# Altium footprint library MAPBGA.PcbLib: 1 footprints
Each footprint in its own frame and in the unit in brackets; x right, y up, seen from the top. Pads: shape width x height; smd on the part's side, far side on the other; paste and mask are expansions set on the pad; w line width, h text height; cw(c..) or ccw(c..) is an arc to the next point about the centre after c.
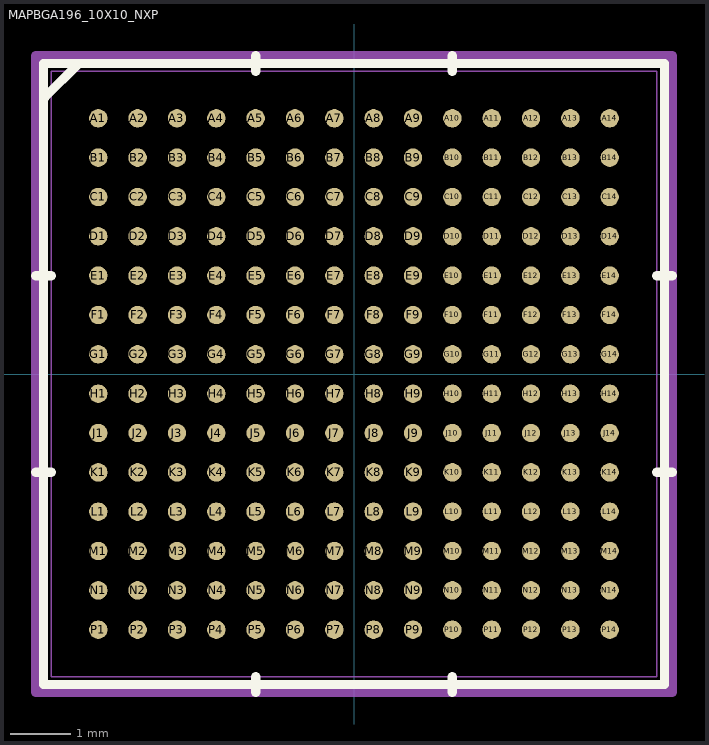
[diagram p0: the footprint, top view; thin cyan lines are the x and y axes]

## MAPBGA196_10X10_NXP [mm]
pads (196):
  round 0.305 smd: A1(-4.225,4.225) A2(-3.575,4.225) A3(-2.925,4.225) A4(-2.275,4.225) A5(-1.625,4.225) A6(-0.975,4.225) A7(-0.325,4.225) A8(0.325,4.225) A9(0.975,4.225) A10(1.625,4.225) A11(2.275,4.225) A12(2.925,4.225) A13(3.575,4.225) A14(4.225,4.225) B1(-4.225,3.575) B2(-3.575,3.575) B3(-2.925,3.575) B4(-2.275,3.575) B5(-1.625,3.575) B6(-0.975,3.575) B7(-0.325,3.575) B8(0.325,3.575) B9(0.975,3.575) B10(1.625,3.575) B11(2.275,3.575) B12(2.925,3.575) B13(3.575,3.575) B14(4.225,3.575) C1(-4.225,2.925) C2(-3.575,2.925) C3(-2.925,2.925) C4(-2.275,2.925) C5(-1.625,2.925) C6(-0.975,2.925) C7(-0.325,2.925) C8(0.325,2.925) C9(0.975,2.925) C10(1.625,2.925) C11(2.275,2.925) C12(2.925,2.925) C13(3.575,2.925) C14(4.225,2.925) D1(-4.225,2.275) D2(-3.575,2.275) D3(-2.925,2.275) D4(-2.275,2.275) D5(-1.625,2.275) D6(-0.975,2.275) D7(-0.325,2.275) D8(0.325,2.275) D9(0.975,2.275) D10(1.625,2.275) D11(2.275,2.275) D12(2.925,2.275) D13(3.575,2.275) D14(4.225,2.275) E1(-4.225,1.625) E2(-3.575,1.625) E3(-2.925,1.625) E4(-2.275,1.625) E5(-1.625,1.625) E6(-0.975,1.625) E7(-0.325,1.625) E8(0.325,1.625) E9(0.975,1.625) E10(1.625,1.625) E11(2.275,1.625) E12(2.925,1.625) E13(3.575,1.625) E14(4.225,1.625) F1(-4.225,0.975) F2(-3.575,0.975) F3(-2.925,0.975) F4(-2.275,0.975) F5(-1.625,0.975) F6(-0.975,0.975) F7(-0.325,0.975) F8(0.325,0.975) F9(0.975,0.975) F10(1.625,0.975) F11(2.275,0.975) F12(2.925,0.975) F13(3.575,0.975) F14(4.225,0.975) G1(-4.225,0.325) G2(-3.575,0.325) G3(-2.925,0.325) G4(-2.275,0.325) G5(-1.625,0.325) G6(-0.975,0.325) G7(-0.325,0.325) G8(0.325,0.325) G9(0.975,0.325) G10(1.625,0.325) G11(2.275,0.325) G12(2.925,0.325) G13(3.575,0.325) G14(4.225,0.325) H1(-4.225,-0.325) H2(-3.575,-0.325) H3(-2.925,-0.325) H4(-2.275,-0.325) H5(-1.625,-0.325) H6(-0.975,-0.325) H7(-0.325,-0.325) H8(0.325,-0.325) H9(0.975,-0.325) H10(1.625,-0.325) H11(2.275,-0.325) H12(2.925,-0.325) H13(3.575,-0.325) H14(4.225,-0.325) J1(-4.225,-0.975) J2(-3.575,-0.975) J3(-2.925,-0.975) J4(-2.275,-0.975) J5(-1.625,-0.975) J6(-0.975,-0.975) J7(-0.325,-0.975) J8(0.325,-0.975) J9(0.975,-0.975) J10(1.625,-0.975) J11(2.275,-0.975) J12(2.925,-0.975) J13(3.575,-0.975) J14(4.225,-0.975) K1(-4.225,-1.625) K2(-3.575,-1.625) K3(-2.925,-1.625) K4(-2.275,-1.625) K5(-1.625,-1.625) K6(-0.975,-1.625) K7(-0.325,-1.625) K8(0.325,-1.625) K9(0.975,-1.625) K10(1.625,-1.625) K11(2.275,-1.625) K12(2.925,-1.625) K13(3.575,-1.625) K14(4.225,-1.625) L1(-4.225,-2.275) L2(-3.575,-2.275) L3(-2.925,-2.275) L4(-2.275,-2.275) L5(-1.625,-2.275) L6(-0.975,-2.275) L7(-0.325,-2.275) L8(0.325,-2.275) L9(0.975,-2.275) L10(1.625,-2.275) L11(2.275,-2.275) L12(2.925,-2.275) L13(3.575,-2.275) L14(4.225,-2.275) M1(-4.225,-2.925) M2(-3.575,-2.925) M3(-2.925,-2.925) M4(-2.275,-2.925) M5(-1.625,-2.925) M6(-0.975,-2.925) M7(-0.325,-2.925) M8(0.325,-2.925) M9(0.975,-2.925) M10(1.625,-2.925) M11(2.275,-2.925) M12(2.925,-2.925) M13(3.575,-2.925) M14(4.225,-2.925) N1(-4.225,-3.575) N2(-3.575,-3.575) N3(-2.925,-3.575) N4(-2.275,-3.575) N5(-1.625,-3.575) N6(-0.975,-3.575) N7(-0.325,-3.575) N8(0.325,-3.575) N9(0.975,-3.575) N10(1.625,-3.575) N11(2.275,-3.575) N12(2.925,-3.575) N13(3.575,-3.575) N14(4.225,-3.575) P1(-4.225,-4.225) P2(-3.575,-4.225) P3(-2.925,-4.225) P4(-2.275,-4.225) P5(-1.625,-4.225) P6(-0.975,-4.225) P7(-0.325,-4.225) P8(0.325,-4.225) P9(0.975,-4.225) P10(1.625,-4.225) P11(2.275,-4.225) P12(2.925,-4.225) P13(3.575,-4.225) P14(4.225,-4.225)
Top Overlay:
  lines w0.152: -5.258,-1.625 -5.004,-1.625 ; -5.258,1.625 -5.004,1.625 ; -5.108,4.575 -4.562,5.121 ; -1.625,-5.258 -1.625,-5.004 ; -1.625,5.004 -1.625,5.258 ; 1.625,-5.258 1.625,-5.004 ; 1.625,5.004 1.625,5.258 ; 5.004,-1.625 5.258,-1.625 ; 5.004,1.625 5.258,1.625 ; -5.131,-5.131 -5.131,5.131 5.131,5.131 5.131,-5.131 -5.131,-5.131
Mechanical 13:
  lines w0.025: -5.004,4.679 -4.679,5.004 ; -5.004,-5.004 -5.004,5.004 5.004,5.004 5.004,-5.004 -5.004,-5.004
Mechanical 15:
  lines w0.152: -5.258,-5.258 5.258,-5.258 5.258,5.258 -5.258,5.258 -5.258,-5.258
3D body "MAPBGA196_10X10_NXP.step": height 1.53, standoff 0, extent -5.004,-5.004 5.004,5.004